# Altium footprint library PULLUP_SWITCH.PcbLib: 1 footprints
Each footprint in its own frame and in the unit in brackets; x right, y up, seen from the top. Pads: shape width x height; smd on the part's side, far side on the other; paste and mask are expansions set on the pad; w line width, h text height; cw(c..) or ccw(c..) is an arc to the next point about the centre after c.
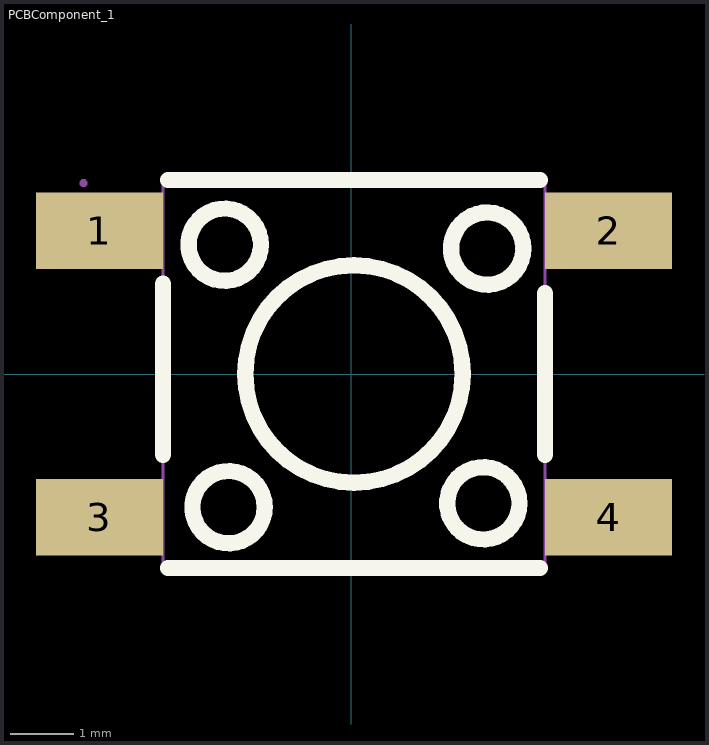
[diagram p0: the footprint, top view; thin cyan lines are the x and y axes]

## PCBComponent_1 [mm] "SW-SMD_4P-L6.0-W6.0-P4.50-LS8.5"
pads (4):
  rect 2x1.2 smd paste+0 mask+0.051: 1(-3.953,2.25) 2(4.047,2.25) 3(-3.953,-2.25) 4(4.047,-2.25)
Top Overlay:
  circle w0.254: c0.047,0 r1.709
  circle w0.254: c-1.985,2.032 r0.568
  circle w0.254: c-1.924,-2.093 r0.568
  circle w0.254: c2.14,1.971 r0.568
  circle w0.254: c2.079,-2.032 r0.568
  lines w0.254: -2.953,-1.269 -2.953,1.269 -2.953,1.419 ; -2.874,-3.048 2.968,-3.048 ; -2.874,3.048 2.968,3.048 ; 3.047,-1.269 3.047,1.269
Mechanical 15:
  region: 3.297,-2.6 3.297,-1.9 4.297,-1.9 4.297,-2.6
  region: 3.037,-2.6 3.037,-1.9 3.307,-1.9 3.307,-2.6
  region: 3.297,1.9 3.297,2.6 4.297,2.6 4.297,1.9
  region: 3.037,1.9 3.037,2.6 3.307,2.6 3.307,1.9
  region: -4.203,1.9 -4.203,2.6 -3.203,2.6 -3.203,1.9
  region: -3.213,1.9 -3.213,2.6 -2.943,2.6 -2.943,1.9
  region: -4.203,-2.6 -4.203,-1.9 -3.203,-1.9 -3.203,-2.6
  region: -3.213,-2.6 -3.213,-1.9 -2.943,-1.9 -2.943,-2.6
  region: -4.143,3 -4.143,3.025 -4.178,3.06 -4.228,3.06 -4.263,3.025 -4.263,3 -4.263,2.975 -4.228,2.94 -4.178,2.94 -4.143,2.975
  lines w0.051: -2.953,-3 -2.953,3 3.047,3 3.047,-3 -2.953,-3
3D body "User Library-PTS645SL50SMTR92-LFS.STEP": height 5, standoff 0, extent -4.373,-2.873 4.627,3.127